# Altium footprint library SnapEDApcb.PcbLib: 1 footprints
Each footprint in its own frame and in the unit in brackets; x right, y up, seen from the top. Pads: shape width x height; smd on the part's side, far side on the other; paste and mask are expansions set on the pad; w line width, h text height; cw(c..) or ccw(c..) is an arc to the next point about the centre after c.
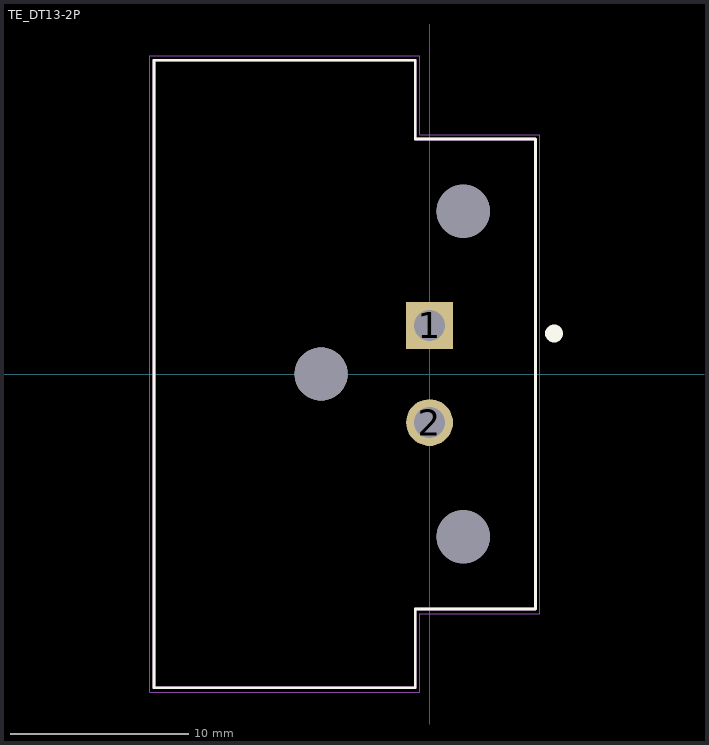
[diagram p0: the footprint, top view; thin cyan lines are the x and y axes]

## TE_DT13-2P [mm]
pads (5):
  rect 2.64x2.64 hole 1.76: 1(0,2.73)
  round 2.64 hole 1.76: 2(0,-2.73)
  round 2.99 hole 2.99 unplated: ""(-6.1,0) ""(1.9,-9.155) ""(1.9,9.155)
Top Overlay:
  circle w0.5: c7,2.28 r0.25
  lines w0.152: -15.5,-17.65 -15.5,17.65 -0.8,17.65 -0.8,13.22 5.96,13.22 5.96,-13.22 -0.8,-13.22 -0.8,-17.65 -15.5,-17.65
Mechanical 13:
  lines w0.152: -15.5,-17.65 -15.5,17.65 -0.8,17.65 -0.8,13.22 5.96,13.22 5.96,-13.22 -0.8,-13.22 -0.8,-17.65 -15.5,-17.65
Mechanical 15:
  lines w0.05: -15.75,-17.9 -0.55,-17.9 -0.55,-13.5 6.21,-13.5 6.21,13.47 -0.55,13.47 -0.55,17.9 -15.75,17.9 -15.75,-17.9